# Altium footprint library TO-92.PcbLib: 1 footprints
Each footprint in its own frame and in the unit in brackets; x right, y up, seen from the top. Pads: shape width x height; smd on the part's side, far side on the other; paste and mask are expansions set on the pad; w line width, h text height; cw(c..) or ccw(c..) is an arc to the next point about the centre after c.
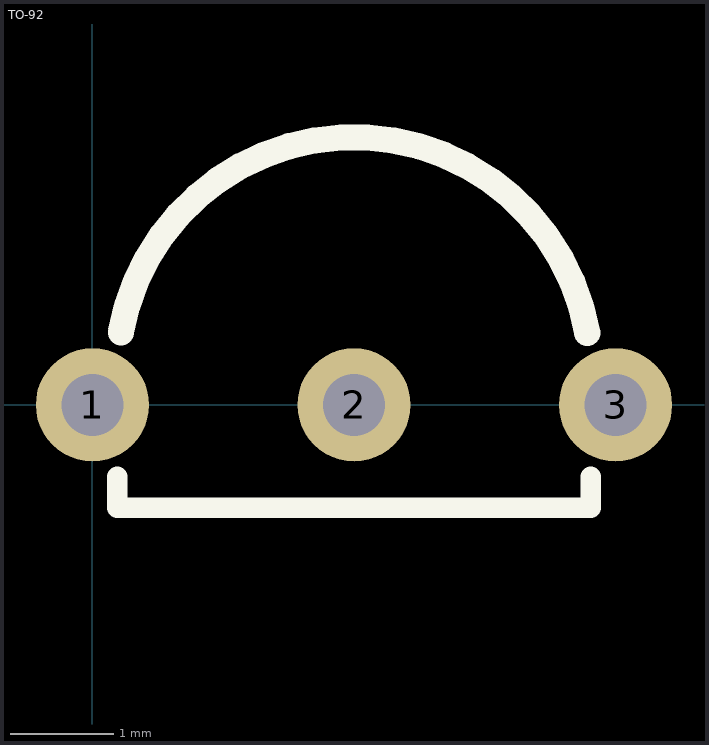
[diagram p0: the footprint, top view; thin cyan lines are the x and y axes]

## TO-92 [mm]
pads (3):
  round 1.1 hole 0.6: 1(0,0) 2(2.54,0) 3(5.08,0)
Top Overlay:
  lines w0.2: 0.24,-0.7 0.24,-1 4.84,-1 4.84,-0.7
  lines w0.254: 0.276,0.704 cw(c2.54,0.3) 4.805,0.701
3D body "ALSRobot-TO-92W_.STEP": height 7.7, standoff -1.56, extent -0.215,-1.55 5.315,2.55